# Altium footprint library изоляторы.PcbLib: 15 footprints
Each footprint in its own frame and in the unit in brackets; x right, y up, seen from the top. Pads: shape width x height; smd on the part's side, far side on the other; paste and mask are expansions set on the pad; w line width, h text height; cw(c..) or ccw(c..) is an arc to the next point about the centre after c.
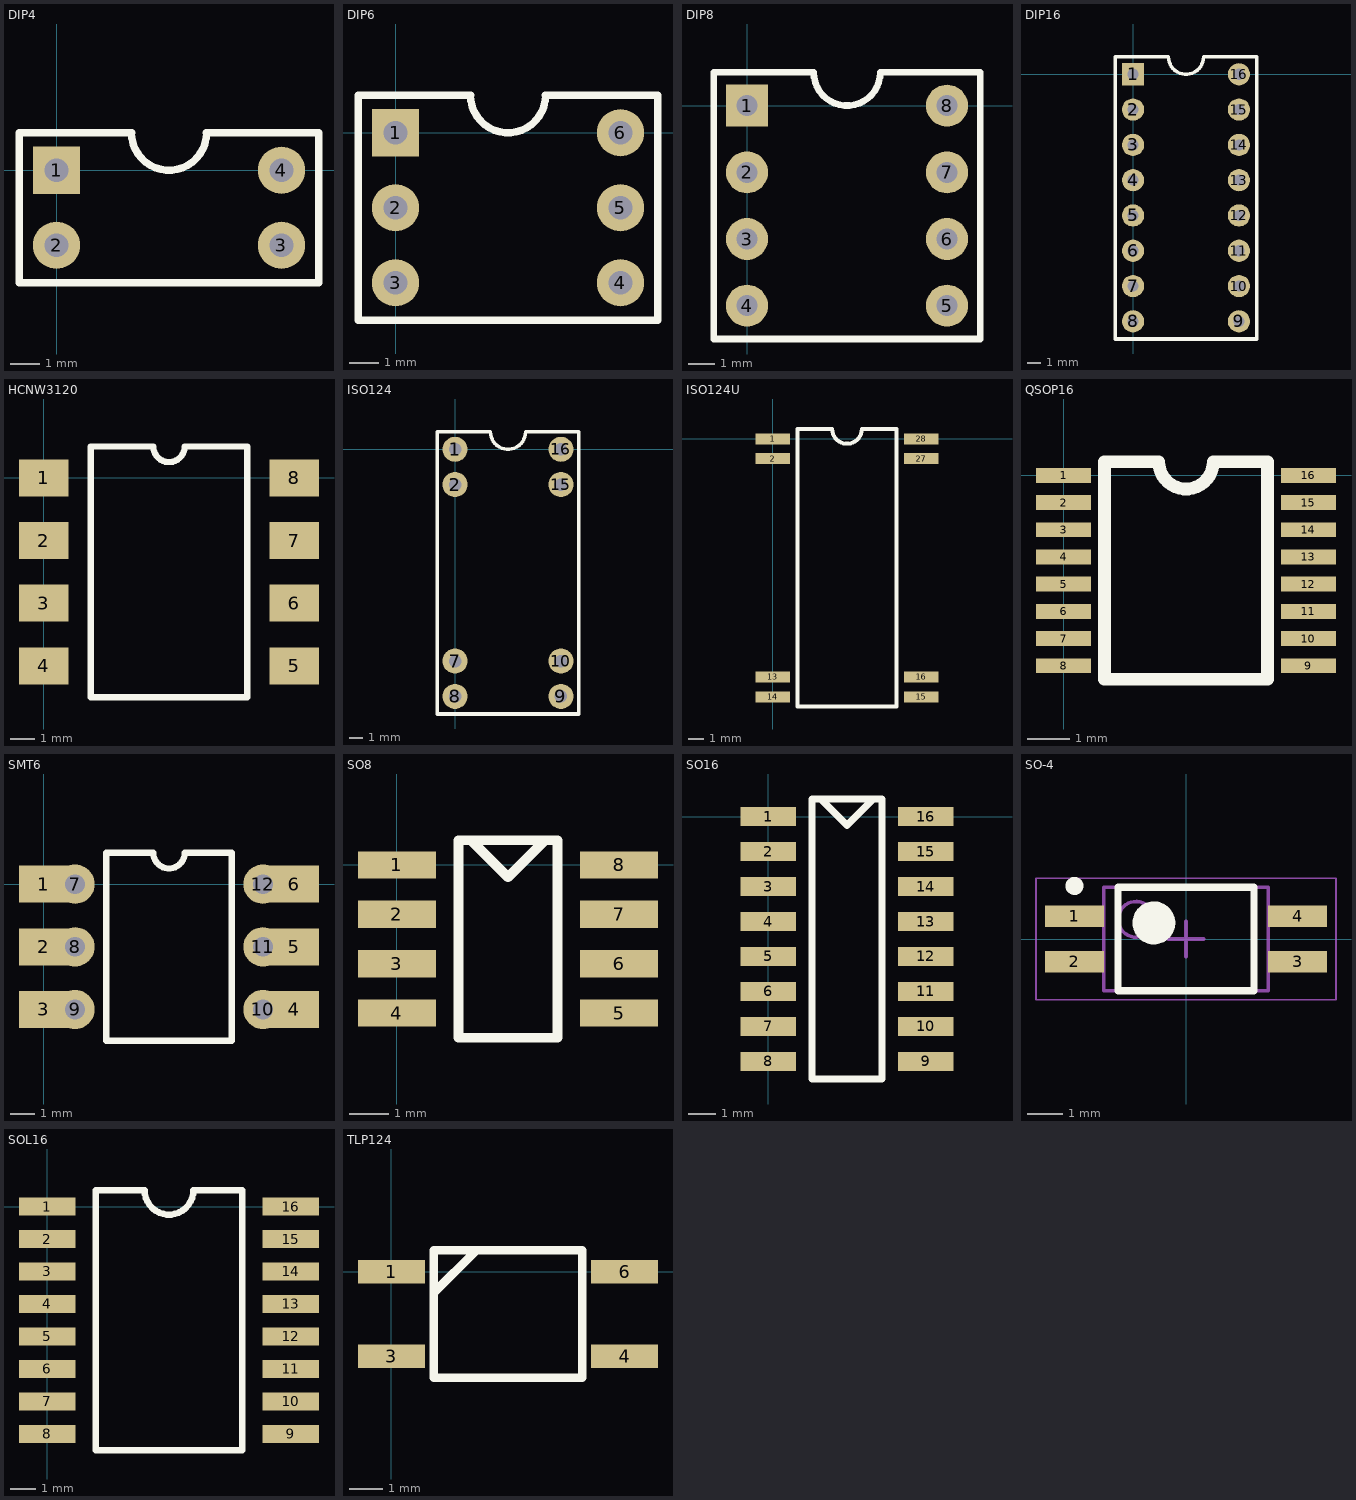
[diagram p0: the footprints below, top view; thin cyan lines are the x and y axes]

## DIP4 [mm]
pads (4):
  rect 1.6x1.6 hole 0.8: 1(0,0)
  round 1.6 hole 0.8: 2(0,-2.54) 3(7.62,-2.54) 4(7.62,0)
Top Overlay:
  lines w0.254: -1.27,-3.81 -1.27,1.27 2.54,1.27 ccw(c3.81,1.27) 5.08,1.27 8.89,1.27 8.89,-3.81 -1.27,-3.81

## DIP6 [mm]
pads (6):
  rect 1.6x1.6 hole 0.8: 1(0,0)
  round 1.6 hole 0.8: 2(0,-2.54) 3(0,-5.08) 4(7.62,-5.08) 5(7.62,-2.54) 6(7.62,0)
Top Overlay:
  lines w0.254: -1.27,-6.35 8.89,-6.35 8.89,1.27 5.08,1.27 cw(c3.81,1.27) 2.54,1.27 -1.27,1.27 -1.27,-6.35

## DIP8 [mm]
pads (8):
  rect 1.6x1.6 hole 0.8: 1(0,0)
  round 1.6 hole 0.8: 2(0,-2.54) 3(0,-5.08) 4(0,-7.62) 5(7.62,-7.62) 6(7.62,-5.08) 7(7.62,-2.54) 8(7.62,0)
Top Overlay:
  lines w0.254: -1.27,-8.89 -1.27,1.27 2.54,1.27 ccw(c3.81,1.27) 5.08,1.27 8.89,1.27 8.89,-8.89 -1.27,-8.89
3D body "User Library-PDIP-8.SLDPRT": height 5.1, standoff -3.18, extent -0.32,-8.81 7.94,1.19

## DIP16 [mm]
pads (16):
  rect 1.6x1.6 hole 0.8: 1(0,0)
  round 1.6 hole 0.8: 2(0,-2.54) 3(0,-5.08) 4(0,-7.62) 5(0,-10.16) 6(0,-12.7) 7(0,-15.24) 8(0,-17.78) 9(7.62,-17.78) 10(7.62,-15.24) 11(7.62,-12.7) 12(7.62,-10.16) 13(7.62,-7.62) 14(7.62,-5.08) 15(7.62,-2.54) 16(7.62,0)
Top Overlay:
  lines w0.254: -1.27,-19.05 8.89,-19.05 8.89,1.27 5.08,1.27 cw(c3.81,1.27) 2.54,1.27 -1.27,1.27 -1.27,-19.05

## HCNW3120 [mm]
pads (8):
  rect 2x1.5 smd: 1(0,0) 2(0,-2.54) 3(0,-5.08) 4(0,-7.62) 5(10.16,-7.62) 6(10.16,-5.08) 7(10.16,-2.54) 8(10.16,0)
Top Overlay:
  lines w0.254: 1.905,-8.89 8.255,-8.89 8.255,1.27 5.715,1.27 cw(c5.08,1.27) 4.445,1.27 1.905,1.27 1.905,-8.89

## ISO124 [mm]
pads (8):
  round 1.8 hole 0.9: 1(0,0) 2(0,-2.54) 7(0,-15.24) 8(0,-17.78) 9(7.62,-17.78) 10(7.62,-15.24) 15(7.62,-2.54) 16(7.62,0)
Top Overlay:
  lines w0.254: -1.27,-19.05 8.89,-19.05 8.89,1.27 5.08,1.27 cw(c3.81,1.27) 2.54,1.27 -1.27,1.27 -1.27,-19.05

## ISO124U [mm]
pads (8):
  rect 2.2x0.7 smd: 1(0,0) 2(0,-1.27) 13(0,-15.24) 14(0,-16.51) 15(9.525,-16.51) 16(9.525,-15.24) 27(9.525,-1.27) 28(9.525,0)
Top Overlay:
  lines w0.254: 3.746,0.635 1.587,0.635 1.587,-17.145 7.938,-17.145 7.938,0.635 5.715,0.635 cw(c4.763,0.635) 3.81,0.635

## PCBComponent_1 [mm]

## QSOP16 [mm]
pads (16):
  rect 1.3x0.35 smd: 1(0,0) 2(0,-0.64) 3(0,-1.28) 4(0,-1.92) 5(0,-2.56) 6(0,-3.2) 7(0,-3.84) 8(0,-4.48) 9(5.76,-4.48) 10(5.76,-3.84) 11(5.76,-3.2) 12(5.76,-2.56) 13(5.76,-1.92) 14(5.76,-1.28) 15(5.76,-0.64) 16(5.76,0)
Top Overlay:
  lines w0.3: 0.96,-4.8 4.8,-4.8 4.8,0.32 3.52,0.32 cw(c2.88,0.32) 2.24,0.32 0.96,0.32 0.96,-4.8

## SMT6 [mm]
pads (12):
  rect 2x1.5 smd: 1(0,0) 2(0,-2.54) 3(0,-5.08) 4(10.16,-5.08) 5(10.16,-2.54) 6(10.16,0)
  round 1.6 hole 0.8 unplated: 7(1.27,0) 8(1.27,-2.54) 9(1.27,-5.08) 10(8.89,-5.08) 11(8.89,-2.54) 12(8.89,0)
Top Overlay:
  lines w0.254: 2.54,-6.35 2.54,1.27 4.445,1.27 ccw(c5.08,1.27) 5.715,1.27 7.62,1.27 7.62,-6.35 2.54,-6.35

## SO8 [mm]
pads (8):
  rect 2x0.7 smd: 1(0,0) 2(0,-1.27) 3(0,-2.54) 4(0,-3.81) 5(5.715,-3.81) 6(5.715,-2.54) 7(5.715,-1.27) 8(5.715,0)
Top Overlay:
  lines w0.254: 1.905,0.635 2.857,-0.318 3.81,0.635 ; 1.587,-4.445 1.587,0.635 4.127,0.635 4.127,-4.445 1.587,-4.445

## SO16 [mm]
pads (16):
  rect 2x0.7 smd: 1(0,0) 2(0,-1.27) 3(0,-2.54) 4(0,-3.81) 5(0,-5.08) 6(0,-6.35) 7(0,-7.62) 8(0,-8.89) 9(5.715,-8.89) 10(5.715,-7.62) 11(5.715,-6.35) 12(5.715,-5.08) 13(5.715,-3.81) 14(5.715,-2.54) 15(5.715,-1.27) 16(5.715,0)
Top Overlay:
  lines w0.254: 1.905,0.635 2.857,-0.318 3.81,0.635 ; 1.587,-9.525 4.127,-9.525 4.127,0.635 1.587,0.635 1.587,-9.525
3D body "CircuitWorks-SO-16.SLDPRT": height 1.45, standoff 0, extent -0.13,-9.466 5.775,0.516

## SO-4 [mm] "SOIC, 4-Leads, Body 2,60x4,40mm, Pitch 1,27mm"
height 2
pads (4):
  rect 1.65x0.6 smd: 1(-3.125,0.635) 2(-3.125,-0.635) 3(3.125,-0.635) 4(3.125,0.635)
Top Overlay:
  circle w0.6: c-0.9,0.45 r0.3
  circle w0.25: c-3.125,1.485 r0.125
  lines w0.2: -1.9,-1.45 1.9,-1.45 1.9,1.45 -1.9,1.45 -1.9,-1.45
Mechanical 14:
  circle w0.1: c-1.4,0.55 r0.5
  lines w0.1: -2.3,-1.45 2.3,-1.45 2.3,1.45 -2.3,1.45 -2.3,-1.45
Mechanical 15:
  lines w0.05: -4.2,-1.7 4.2,-1.7 4.2,1.7 -4.2,1.7 -4.2,-1.7
  lines w0.1: -0.5,0 0.5,0 ; 0,-0.5 0,0.5
3D body "User Library-PC3H7.SLDPRT": height 2.02, standoff -0.03, extent -3.5,-1.3 3.5,1.3

## SOL16 [mm]
pads (16):
  rect 2.2x0.7 smd: 1(0,0) 2(0,-1.27) 3(0,-2.54) 4(0,-3.81) 5(0,-5.08) 6(0,-6.35) 7(0,-7.62) 8(0,-8.89) 9(9.525,-8.89) 10(9.525,-7.62) 11(9.525,-6.35) 12(9.525,-5.08) 13(9.525,-3.81) 14(9.525,-2.54) 15(9.525,-1.27) 16(9.525,0)
Top Overlay:
  lines w0.254: 1.905,-9.525 7.62,-9.525 7.62,0.635 5.715,0.635 cw(c4.763,0.635) 3.81,0.635 1.905,0.635 1.905,-9.525

## TLP124 [mm]
pads (4):
  rect 2x0.7 smd: 1(0,0) 3(0,-2.54) 4(6.985,-2.54) 6(6.985,0)
Top Overlay:
  lines w0.254: 1.27,-0.635 2.54,0.635 ; 1.27,-3.175 1.27,0.635 5.715,0.635 5.715,-3.175 1.27,-3.175